# Altium schematic symbol library RELAY_SH.SchLib: 1 symbol
Pins are listed as number, name and electrical type; pins without a type are passive.

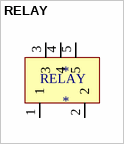
[diagram p0: symbol RELAY]

## RELAY
designator *
footprint RELAY
footprint RELAY_OK
pins: 1, 2, 3, 4, 5